# Altium footprint library PcbLib1.PcbLib: 2 footprints
Each footprint in its own frame and in the unit in brackets; x right, y up, seen from the top. Pads: shape width x height; smd on the part's side, far side on the other; paste and mask are expansions set on the pad; w line width, h text height; cw(c..) or ccw(c..) is an arc to the next point about the centre after c.
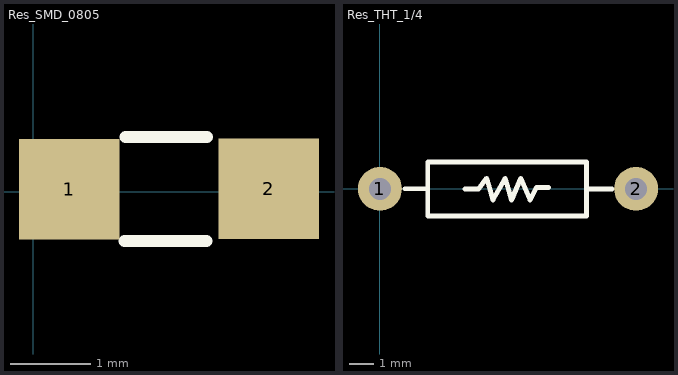
[diagram p0: the footprints below, top view; thin cyan lines are the x and y axes]

## Res_SMD_0805 [mm]
pads (2):
  rect 1.25x1.25 smd: 1(0.447,0.035) 2(2.926,0.043)
Top Overlay:
  lines w0.15: 1.134,-0.61 2.15,-0.61 ; 1.144,0.685 2.16,0.685
3D body "Res_SMD_0805.STEP": height 0.6, standoff 0, extent 0.677,-0.592 2.709,0.678

## Res_THT_1/4 [mm]
pads (2):
  round 1.8 hole 0.9: 1(0,0) 2(10.5,0)
Top Overlay:
  lines w0.2: 1.016,0 1.961,0 ; 3.488,-0.011 4.045,-0.008 4.378,0.435 4.632,-0.454 5.14,0.435 5.394,-0.454 5.775,0.435 6.156,-0.454 6.41,0.054 6.918,0.056 ; 8.461,-0.008 9.525,-0.004 ; 1.961,-1.108 8.461,-1.108 8.461,1.092 1.961,1.092 1.961,-1.108
3D body "Res_THT_0.25_1K.STEP": height 2.39, standoff -2, extent -0.148,-1.261 10.512,1.141